# Altium schematic symbol library FER.Schlib: 1 symbol
Pins are listed as number, name and electrical type; pins without a type are passive.

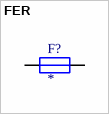
[diagram p0: symbol FER]

## FER
designator F?
pins: 1, 2